# Altium schematic symbol library CH340G.SchLib: 1 symbol
Pins are listed as number, name and electrical type; pins without a type are passive.

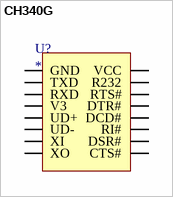
[diagram p0: symbol CH340G]

## CH340G
designator U?
footprint LC-SOP-16_150mil
pins: 1 GND, 2 TXD, 3 RXD, 4 V3, 5 UD+, 6 UD-, 7 XI, 8 XO, 9 CTS#, 10 DSR#, 11 RI#, 12 DCD#, 13 DTR#, 14 RTS#, 15 R232, 16 VCC